# EAGLE library part 648109131822 (library Wuerth_Elektronik_eiCan_Wire_to_Board_Connectors v1.2)
WR-WTB 1.50mm SMT Male Horizontal Shrouded Header, 9 Pins
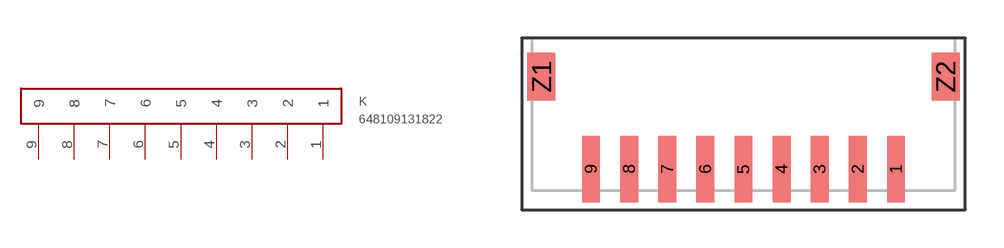
[diagram p51: symbol with the pads of 648109131822; footprint 648109131822]

Designator prefix K

## 648109131822  [648109131822]
1  1
2  2
3  3
4  4
5  5
6  6
7  7
8  8
9  9

## Footprint 648109131822 (pad centres in mm)
WR-WTB 1.50mm SMT Male Horizontal Shrouded Header, 9 Pins
smd 0.7 x 2.6: 1 11.25,0; 2 9.75,0; 3 8.25,0; 4 6.75,0; 5 5.25,0; 6 3.75,0; 7 2.25,0; 8 0.75,0; 9 -0.75,0
smd 1.1 x 1.9: Z1 -2.7,3.65; Z2 13.2,3.65